# EAGLE library part 615016137721 (library Eagle_WR-MJ (rev23b))
WR-MJ Modular Jack Horizontal Shielded Dual Port w. EMI Panel Finger 8P8C Tab Up KIND PROPERTIES Quality Class:500 Mating cycles LED:yellow-green General Information Operating Temperature:-40 up to +85 °C Compliance:RoHS Electrical Properties IR 1:1.5 A Working Voltage: 120 V (AC) Withstanding Voltage:1000V (AC) Contact Resistance:20mΩ RISO:500 MΩ Material Properties Insulator MateriaL:PBT Insulator Flammability Rating:UL94 V-0 Color:Black Contact Material:Copper Alloy Contact Plating:Selective Gold Contact Type:Stamped Shielding Material Bronze Shielding Plating:Nickel Packaging Properties Packaging:Tray <https://www.we-online.com/catalog/media/o33141v209%20Family_WR-MJ_615016137721.jpg> Details see: https://www.we-online.com/catalog/en/MJ_HORIZONTAL_SHIELDED_DUAL_PORT_W_LED_AND_EMI_PANEL_FINGER_8P8C_TAB_UP/ Updated by Yingchun,Shan 2019-11-26 2019 (C) Würth Elektronik
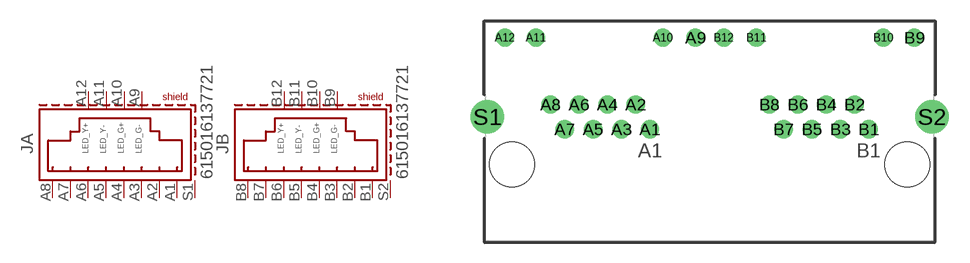
[diagram p42: symbol with the pads of 615016137721; footprint 615016137721]

Designator prefix J; gates A=8P8C_S_LEDYG B=8P8C_S_LEDYG

## 615016137721 (DATASHEET-URL: https://www.we-online.com/redexpert/spec/615016137721?ae; LED: yellow-green; MOUNT: THT; PART-NUMBER: 615016137721; TYPE: Horizontal; VALUE: 615016137721; XPXC: 8P8C)  [615016137721]
A1  A:1  pas
A2  A:2  pas
A3  A:3  pas
A4  A:4  pas
A5  A:5  pas
A6  A:6  pas
A7  A:7  pas
A8  A:8  pas
A9  A:G-  pas
A10  A:G+  pas
A11  A:Y-  pas
A12  A:Y+  pas
B1  B:1  pas
B2  B:2  pas
B3  B:3  pas
B4  B:4  pas
B5  B:5  pas
B6  B:6  pas
B7  B:7  pas
B8  B:8  pas
B9  B:G-  pas
B10  B:G+  pas
B11  B:Y-  pas
B12  B:Y+  pas
S1  A:SHIELD  pas
S2  B:SHIELD  pas

## Footprint 615016137721 (pad centres in mm)
WR-MJ Modular Jack Horizontal Shielded Dual Port w. EMI Panel Finger 8P8C Tab Up,16 Pins
drill 0.8: A1 -4.305,2.54; A2 -5.325,4.32; A3 -6.345,2.54; A4 -7.365,4.32; A5 -8.385,2.54; A6 -9.405,4.32; A7 -10.425,2.54; A8 -11.445,4.32; A9 -1.015,9.14; A10 -3.365,9.14; A11 -12.505,9.14; A12 -14.735,9.14; B1 11.445,2.54; B2 10.425,4.32; B3 9.405,2.54; B4 8.385,4.32; B5 7.365,2.54; B6 6.345,4.32; B7 5.325,2.54; B8 4.305,4.32; B9 14.735,9.14; B10 12.505,9.14; B11 3.365,9.14; B12 1.015,9.14
drill 1.6: S1 -16,3.43; S2 16,3.43
hole 3.25 at -14.225,0
hole 3.25 at 14.225,0